# Altium footprint library SOIC127P790X216-8N.PcbLib: 1 footprints
Each footprint in its own frame and in the unit in brackets; x right, y up, seen from the top. Pads: shape width x height; smd on the part's side, far side on the other; paste and mask are expansions set on the pad; w line width, h text height; cw(c..) or ccw(c..) is an arc to the next point about the centre after c.
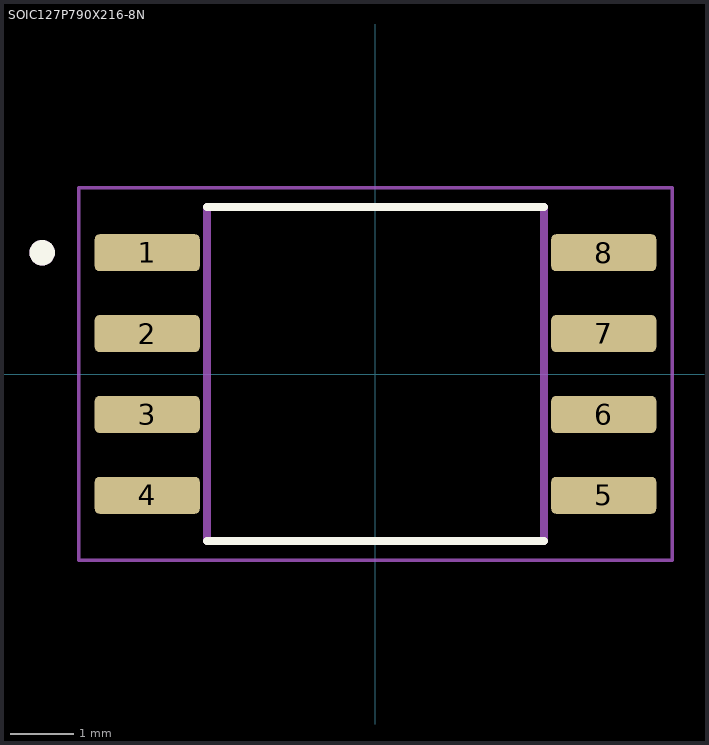
[diagram p0: the footprint, top view; thin cyan lines are the x and y axes]

## SOIC127P790X216-8N [mm]
pads (8):
  rrect25% 1.65x0.58 smd: 1(-3.585,1.905) 2(-3.585,0.635) 3(-3.585,-0.635) 4(-3.585,-1.905) 5(3.585,-1.905) 6(3.585,-0.635) 7(3.585,0.635) 8(3.585,1.905)
Top Overlay:
  circle w0.2: c-5.235,1.905 r0.1
  lines w0.127: -2.645,-2.62 2.645,-2.62 ; -2.645,2.62 2.645,2.62
Mechanical 13:
  circle w0.2: c-5.235,1.905 r0.1
  lines w0.127: -2.645,-2.62 2.645,-2.62 2.645,2.62 -2.645,2.62 -2.645,-2.62
Mechanical 15:
  lines w0.05: -4.66,-2.925 4.66,-2.925 4.66,2.925 -4.66,2.925 -4.66,-2.925
3D body "step_temp.STEP": height 2.16, standoff 0, extent -3.99,-2.62 3.99,2.62